# EAGLE library part PIC18F2450 (library microchip-dspic)
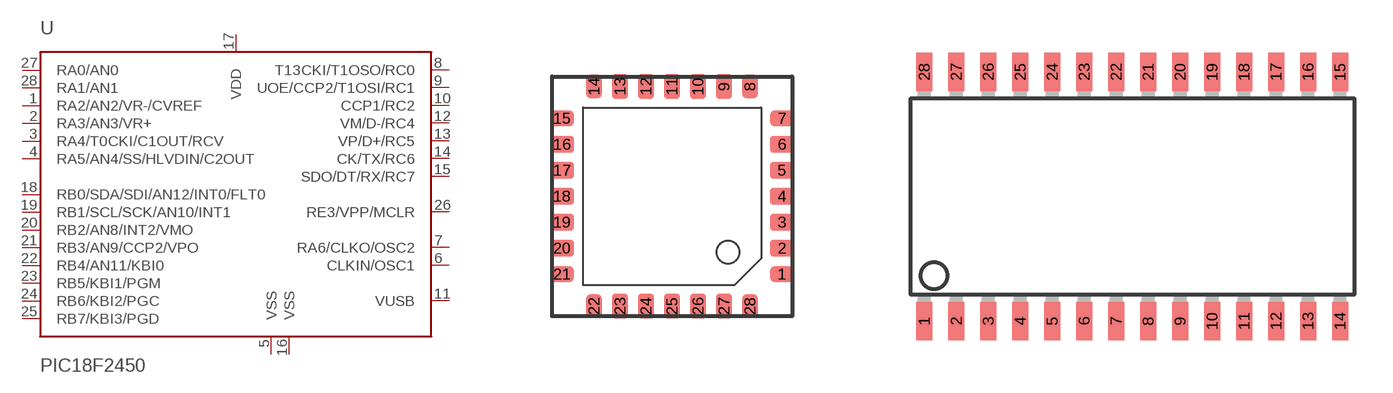
[diagram p55: symbol with the pads of QFN-S28-6X6; footprints QFN-S28-6X6, SO-28W]

Designator prefix -

## PIC18F2450QFN  [QFN-S28-6X6]
1  RA2/AN2/VR-/CVREF
2  RA3/AN3/VR+
3  RA4/T0CKI/C1OUT/RCV
4  RA5/AN4/SS/HLVDIN/C2OUT
5  VSS  pwr
6  CLKIN/OSC1  in
7  RA6/CLKO/OSC2
8  T13CKI/T1OSO/RC0
9  UOE/CCP2/T1OSI/RC1
10  CCP1/RC2
11  VUSB  pwr
12  VM/D-/RC4
13  VP/D+/RC5
14  CK/TX/RC6
15  SDO/DT/RX/RC7
16  VSS  pwr
17  VDD  pwr
18  RB0/SDA/SDI/AN12/INT0/FLT0
19  RB1/SCL/SCK/AN10/INT1
20  RB2/AN8/INT2/VMO
21  RB3/AN9/CCP2/VPO
22  RB4/AN11/KBI0
23  RB5/KBI1/PGM
24  RB6/KBI2/PGC
25  RB7/KBI3/PGD
26  RE3/VPP/MCLR
27  RA0/AN0
28  RA1/AN1

## PIC18F2450SOIC  [SO-28W]
Pads as for QFN-S28-6X6

## Footprint QFN-S28-6X6 (pad centres in mm)
Quad Flat No Lead
smd 0.6 x 0.4: 1 2.75,-1.95; 2 2.75,-1.3; 3 2.75,-0.65; 4 2.75,0; 5 2.75,0.65; 6 2.75,1.3; 7 2.75,1.95; 15 -2.75,1.95; 16 -2.75,1.3; 17 -2.75,0.65; 18 -2.75,0; 19 -2.75,-0.65; 20 -2.75,-1.3; 21 -2.75,-1.95
smd 0.4 x 0.6: 8 1.95,2.75; 9 1.3,2.75; 10 0.65,2.75; 11 0,2.75; 12 -0.65,2.75; 13 -1.3,2.75; 14 -1.95,2.75; 22 -1.95,-2.75; 23 -1.3,-2.75; 24 -0.65,-2.75; 25 0,-2.75; 26 0.65,-2.75; 27 1.3,-2.75; 28 1.95,-2.75

## Footprint SO-28W (pad centres in mm)
Small Outline Wide Plastic Gull Wing 300-mil body, package type SO
smd 0.635 x 1.524: 1 -7.62,-4.953; 2 -6.35,-4.953; 3 -5.08,-4.953; 4 -3.81,-4.953; 5 -2.54,-4.953; 6 -1.27,-4.953; 7 0,-4.953; 8 1.27,-4.953; 9 2.54,-4.953; 10 3.81,-4.953; 11 5.08,-4.953; 12 6.35,-4.953; 13 7.62,-4.953; 14 8.89,-4.953; 15 8.89,4.953; 16 7.62,4.953; 17 6.35,4.953; 18 5.08,4.953; 19 3.81,4.953; 20 2.54,4.953; 21 1.27,4.953; 22 0,4.953; 23 -1.27,4.953; 24 -2.54,4.953; 25 -3.81,4.953; 26 -5.08,4.953; 27 -6.35,4.953; 28 -7.62,4.953